# Altium footprint library 691 242 810 0xx.PcbLib: 3 footprints
Each footprint in its own frame and in the unit in brackets; x right, y up, seen from the top. Pads: shape width x height; smd on the part's side, far side on the other; paste and mask are expansions set on the pad; w line width, h text height; cw(c..) or ccw(c..) is an arc to the next point about the centre after c.
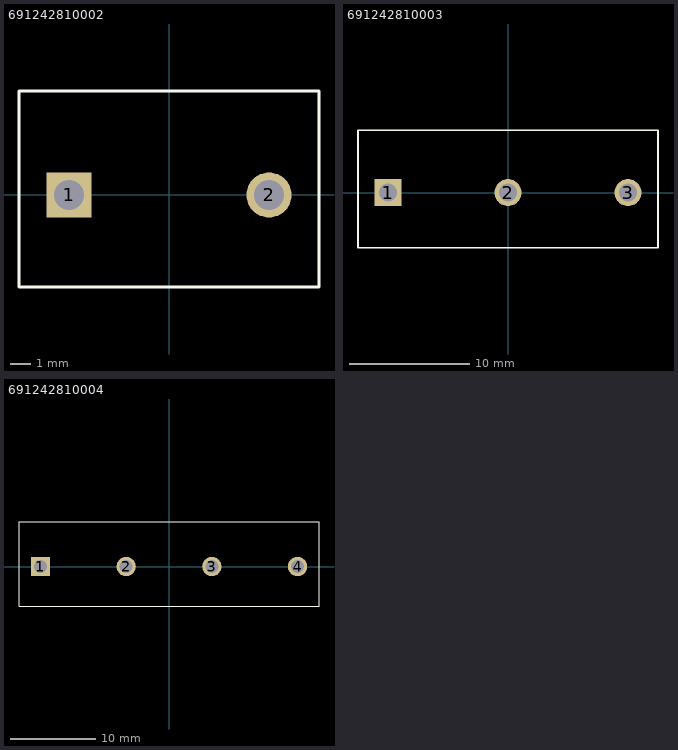
[diagram p0: the footprints below, top view; thin cyan lines are the x and y axes]

## 691242810002 [mm] "Serie 2428 - 10.00 mm _ 2 pins"
height 13.8
pads (2):
  rect 2.25x2.25 hole 1.5: 1(-5,0)
  round 2.25 hole 1.5: 2(5,0)
Top Overlay:
  lines w0.127: -7.5,-4.6 7.5,-4.6 7.5,5.2 -7.5,5.2 -7.5,-4.6
3D body: height 13.9, standoff -3.4, extent -7.5,-4.6 7.5,5.2

## 691242810003 [mm] "Serie 2428 - 10.00 mm _ 3 pins"
height 13.8
pads (3):
  rect 2.25x2.25 hole 1.5: 1(-10,0)
  round 2.25 hole 1.5: 2(0,0) 3(10,0)
Top Overlay:
  lines w0.127: -12.5,-4.6 12.5,-4.6 12.5,5.2 -12.5,5.2 -12.5,-4.6
3D body: height 13.9, standoff -3.4, extent -12.5,-4.6 12.5,5.2

## 691242810004 [mm] "Serie 2428 - 10.00 mm _ 4 pins"
height 13.8
pads (4):
  rect 2.25x2.25 hole 1.5: 1(-15,0)
  round 2.25 hole 1.5: 2(-5,0) 3(5,0) 4(15,0)
Top Overlay:
  lines w0.127: -17.5,-4.6 -17.5,5.2 17.5,5.2 17.5,-4.6 -17.5,-4.6
3D body: height 13.9, standoff -3.4, extent -17.5,-4.6 17.5,5.2